# EAGLE library part ATT1217 (library lolomolo)
AAT1217 Adj 500ma step up converter
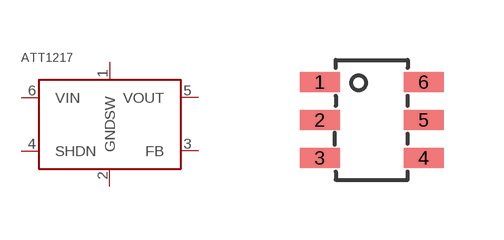
[diagram p0: symbol with the pads of TSOT23-6; footprint TSOT23-6]

Designator prefix IC

## ATT1217  [TSOT23-6]
1  SW
2  GND
3  FB
4  SHDN
5  VOUT
6  VIN

## Footprint TSOT23-6 (pad centres in mm)
smd 1 x 0.5: 1 -1.27,1.27; 2 -1.27,0.32; 3 -1.27,-0.63; 4 1.33,-0.63; 5 1.33,0.32; 6 1.33,1.27